# Altium footprint library fromST.PcbLib: 65 footprints (part 5 of 5)
Each footprint in its own frame and in the unit in brackets; x right, y up, seen from the top. Pads: shape width x height; smd on the part's side, far side on the other; paste and mask are expansions set on the pad; w line width, h text height; cw(c..) or ccw(c..) is an arc to the next point about the centre after c.
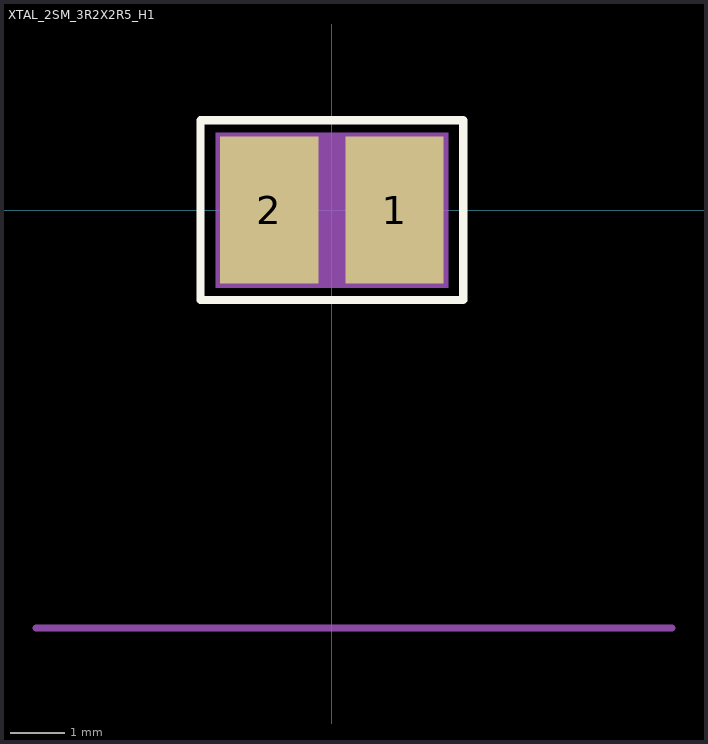
[diagram p4: the footprint, top view; thin cyan lines are the x and y axes]

## XTAL_2SM_3R2X2R5_H1 [mil]
pads (2):
  rect 71x106 smd: 1(45.28,0) 2(-45.28,0)
Top Overlay:
  lines w6: -95,-65 95,-65 95,65 -95,65 -95,-65
  text ".Designator" at -10,-145 h34
Mechanical 32:
  region: -84,56 -84,-56 84,-56 84,56
  lines w5: -214,-302 246,-302 ; -63,-37.4 cw(c-62.99,-49.21) -51.18,-49 ; -62.99,-36.97 -62.99,37 ; -62.99,37.4 ccw(c-62.99,49.21) -51.18,49 ; -50.79,-49.21 51.18,-49.21 ; -50,49.21 50,49.21 ; 51.18,-49.02 cw(c62.99,-49.21) 63,-37.4 ; 51.19,49 ccw(c63,49.21) 62.99,37.4 ; 62.99,-37 62.99,36.97
  text "2" at -51.68,0 h16
  text "1" at 38.88,0 h16
  text "XTAL_2SM_3R2X2R5_H1" at -243,120 h30
  text "NX3225GD-8.00M" at -148,135 h30
  text "Sofer Lib Information" at 246,-312 h25
  text "Ref PN: NX3225GD-8MHZ-STD-CRA-3" at 216,-262 h25
  text "Creat : Ziv" at 216,-222 h25
  text "Date  : 2015-01-07" at 216,-182 h25
  text "Rev   : A1" at 216,-142 h25
  text "Remark: D054-055A2" at 216,-102 h25
  text "NO" at -28,0 h35
3D body: height 150, standoff 0, extent -84,-56 84,56